# Altium schematic symbol library components.SchLib: 17 symbols
Pins are listed as number, name and electrical type; pins without a type are passive.

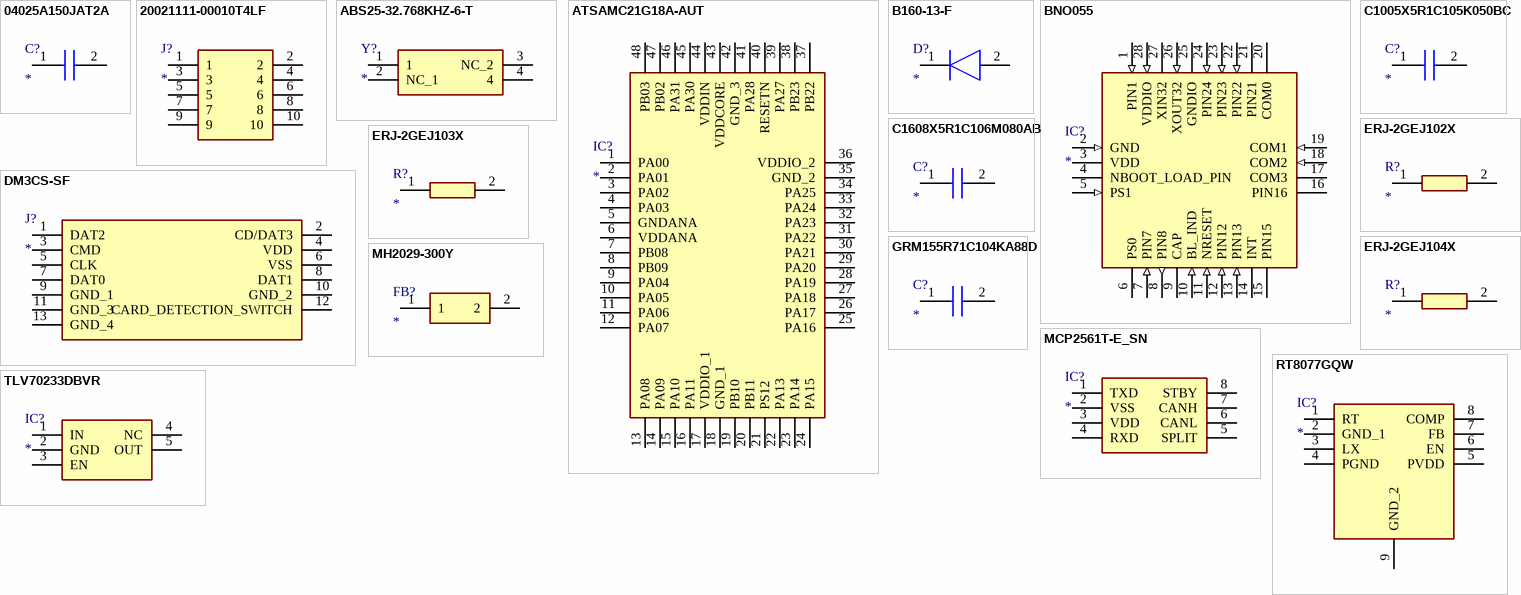
[diagram p0: symbols 04025A150JAT2A to TLV70233DBVR]

## 04025A150JAT2A
designator C?
Capacitor; Manufacturer_Name: AVX; Manufacturer_Part_Number: 04025A150JAT2A; Allied_Number: 70001388; Datasheet Link: http://datasheets.avx.com/C0GNP0-Dielectric.pdf; Height: 0.56mm; Mouser Part Number: 581-04025A150J; Mouser Price/Stock: https://www.mouser.com/Search/Refine.aspx?Keyword=581-04025A150J; RS Part Number: 6983071P; RS Price/Stock: http://uk.rs-online.com/web/p/products/6983071P; Allied Price/Stock: http://www.alliedelec.com/avx-04025a150jat2a/70001388/
footprint CAPC1005X56N
pins: 1, 2

## 20021111-00010T4LF
designator J?
Connector; Manufacturer_Name: FCI / Amphenol; Manufacturer_Part_Number: 20021111-00010T4LF; Description: Headers; Allied_Number: 70475647; Datasheet Link: https://www.mouser.it/datasheet/2/18/20021111-1362952.pdf; Height: 7.58mm; Mouser Part Number: 649-221111-00010T4LF; Allied Price/Stock: https://www.alliedelec.com/amphenolfci-20021111-00010t4lf/70475647/
footprint HDRV10W41P127_2X5_635X343X758P
pins: 1, 2, 3, 4, 5, 6, 7, 8, 9, 10

## ABS25-32.768KHZ-6-T
designator Y?
Crystal or Oscillator; Manufacturer_Name: ABRACON; Manufacturer_Part_Number: ABS25-32.768KHZ-6-T; Datasheet Link: http://www.abracon.com/Resonators/abs25.pdf; Mouser Part Number: 815-ABS25-32.768K6-T; Mouser Price/Stock: https://www.mouser.com/Search/Refine.aspx?Keyword=815-ABS25-32.768K6-T; RS Part Number: 1712795; RS Price/Stock: http://uk.rs-online.com/web/p/products/1712795
footprint ABS25
pins: 1, 2 NC_1, 3 NC_2, 4

## ATSAMC21G18A-AUT
designator IC?
Integrated Circuit; Manufacturer_Name: Microchip; Manufacturer_Part_Number: ATSAMC21G18A-AUT; Datasheet Link: http://www.mouser.com/ds/2/36/Atmel-42365-SAMC21_Datasheet-894213.pdf; Height: 1.2mm; Mouser Part Number: 556-ATSAMC21G18A-AUT; Mouser Price/Stock: https://www.mouser.com/Search/Refine.aspx?Keyword=556-ATSAMC21G18A-AUT
footprint QFP50P900X900X120-48N
pins: 1 PA00 (power), 2 PA01 (power), 3 PA02 (power), 4 PA03, 5 GNDANA, 6 VDDANA, 7 PB08, 8 PB09, 9 PA04, 10 PA05, 11 PA06, 12 PA07, 13 PA08, 14 PA09, 15 PA10, 16 PA11, 17 VDDIO_1, 18 GND_1, 19 PB10, 20 PB11, 21 PS12, 22 PA13, 23 PA14, 24 PA15, 25 PA16, 26 PA17, 27 PA18, 28 PA19, 29 PA20, 30 PA21, 31 PA22, 32 PA23, 33 PA24, 34 PA25, 35 GND_2, 36 VDDIO_2, 37 PB22, 38 PB23, 39 PA27, 40 RESETN, 41 PA28, 42 GND_3, 43 VDDCORE, 44 VDDIN, 45 PA30, 46 PA31, 47 PB02, 48 PB03

## B160-13-F
designator D?
Diode; Manufacturer_Name: Diodes Inc.; Manufacturer_Part_Number: B160-13-F; Description: Schottky Diode 1A 60V 0.7Vf SMA Diodes Inc B160-13-F; Allied_Number: 71028107; Datasheet Link: http://uk.rs-online.com/web/p/products/7384765; Height: 2.4mm; Mouser Part Number: 621-B160-F; Mouser Price/Stock: https://www.mouser.com/Search/Refine.aspx?Keyword=621-B160-F; RS Part Number: 7384765P; RS Price/Stock: http://uk.rs-online.com/web/p/products/7384765P; Allied Price/Stock: https://www.alliedelec.com/diodes-inc-b160-13-f/71028107/
footprint DIOM5226X240N
pins: 1 K, 2 A

## BNO055
designator IC?
Integrated Circuit; Manufacturer_Name: Bosch Sensortec; Manufacturer_Part_Number: BNO055; Description: IMUs - Inertial Measurement Units Absolute Orientation 9-Axis Sensor; Datasheet Link: https://ae-bst.resource.bosch.com/media/_tech/media/datasheets/BST_BNO055_DS000_14.pdf; Height: 1mm; Mouser Part Number: 262-BNO055; Mouser Price/Stock: https://www.mouser.com/Search/Refine.aspx?Keyword=262-BNO055; RS Part Number: 8496171
footprint BNO055
pins: 1 PIN1 (in), 2 GND (in), 3 VDD (power), 4 NBOOT_LOAD_PIN (power), 5 PS1 (in), 6 PS0 (power), 7 PIN7 (in), 8 PIN8 (out), 9 CAP (power), 10 BL_IND (in), 11 NRESET (in), 12 PIN12 (in), 13 PIN13 (in), 14 INT, 15 PIN15, 16 PIN16, 17 COM3, 18 COM2 (in), 19 COM1 (in), 20 COM0, 21 PIN21, 22 PIN22 (in), 23 PIN23 (in), 24 PIN24 (in), 25 GNDIO, 26 XOUT32 (in), 27 XIN32, 28 VDDIO (in)

## C1005X5R1C105K050BC
designator C?
Capacitor; Manufacturer_Name: TDK; Manufacturer_Part_Number: C1005X5R1C105K050BC; Description: 0402 X5R ceramic capacitor 16V 1uF TDK C1005 C 1??F Ceramic Multilayer Capacitor; Datasheet Link: https://product.tdk.com/info/en/documents/chara_sheet/C1005X5R1C105K050BC.pdf; Height: 0.55mm; Mouser Part Number: 810-C1005X5R1C105K; Mouser Price/Stock: https://www.mouser.com/Search/Refine.aspx?Keyword=810-C1005X5R1C105K; RS Part Number: 9214062; RS Price/Stock: http://uk.rs-online.com/web/p/products/9214062
footprint CAPC1005X55N
pins: 1, 2

## C1608X5R1C106M080AB
designator C?
Capacitor; Manufacturer_Name: TDK; Manufacturer_Part_Number: C1608X5R1C106M080AB; Description: Capacitor MLCC 0603 16V 10uF X5R; Datasheet Link: https://product.tdk.com/info/en/catalog/datasheets/mlcc_commercial_midvoltage_en.pdf; Height: 0.8mm; Mouser Part Number: 810-C1608X5R1C106M; Mouser Price/Stock: https://www.mouser.com/Search/Refine.aspx?Keyword=810-C1608X5R1C106M; RS Part Number: 9159120P; RS Price/Stock: http://uk.rs-online.com/web/p/products/9159120P
footprint CAPC1608X80N
pins: 1, 2

## DM3CS-SF
designator J?
Connector; Manufacturer_Name: Hirose; Manufacturer_Part_Number: DM3CS-SF; Description: MicroSD card connector; Datasheet Link: http://docs-emea.rs-online.com/webdocs/118f/0900766b8118f8bb.pdf; Mouser Part Number: 798-DM3CSSF; Mouser Price/Stock: https://www.mouser.com/Search/Refine.aspx?Keyword=798-DM3CSSF; RS Part Number: 1664833; RS Price/Stock: http://uk.rs-online.com/web/p/products/1664833
footprint DM3CS-SF
pins: 1 DAT2, 2 CD/DAT3, 3 CMD, 4 VDD, 5 CLK, 6 VSS, 7 DAT0, 8 DAT1, 9 GND_1, 10 GND_2, 11 GND_3, 12 CARD_DETECTION_SWITCH, 13 GND_4

## ERJ-2GEJ102X
designator R?
Resistor; Manufacturer_Name: Panasonic; Manufacturer_Part_Number: ERJ-2GEJ102X; Allied_Number: 70264916; Description: RESISTOR; Datasheet Link: http://componentsearchengine.com/Datasheets/1/ERJ-2GEJ102X.pdf; Mouser Part Number: 667-ERJ-2GEJ102X; Mouser Price/Stock: https://www.mouser.com/Search/Refine.aspx?Keyword=667-ERJ-2GEJ102X; Allied Price/Stock: https://www.alliedelec.com/panasonic-erj-2gej102x/70264916/
footprint RESC1005X40N
pins: 1 R1, 2 R2

## ERJ-2GEJ103X
designator R?
Resistor; Manufacturer_Name: Panasonic; Manufacturer_Part_Number: ERJ-2GEJ103X; Allied_Number: 70264917; Description: RESISTOR; Datasheet Link: http://componentsearchengine.com/Datasheets/1/ERJ-2GEJ103X.pdf; Mouser Part Number: 667-ERJ-2GEJ103X; Mouser Price/Stock: https://www.mouser.com/Search/Refine.aspx?Keyword=667-ERJ-2GEJ103X; Allied Price/Stock: https://www.alliedelec.com/panasonic-erj-2gej103x/70264917/
footprint RESC1005X40N
pins: 1 R1, 2 R2

## ERJ-2GEJ104X
designator R?
Resistor; Manufacturer_Name: Panasonic; Manufacturer_Part_Number: ERJ-2GEJ104X; Allied_Number: 70264918; Description: RESISTOR; Mouser Part Number: 667-ERJ-2GEJ104X; Mouser Price/Stock: https://www.mouser.com/Search/Refine.aspx?Keyword=667-ERJ-2GEJ104X; Allied Price/Stock: https://www.alliedelec.com/panasonic-erj-2gej104x/70264918/
footprint RESC1005X40N
pins: 1 R1, 2 R2

## GRM155R71C104KA88D
designator C?
Capacitor; Manufacturer_Name: Murata Electronics; Manufacturer_Part_Number: GRM155R71C104KA88D; Description: Ceramic  SMT capacitor 100nF 16Vdc Murata 0402 GRM 100nF Ceramic Multilayer Capacitor; Datasheet Link: http://www.murata.com/~/media/webrenewal/support/library/catalog/products/capacitor/mlcc/c02e.pdf; Height: 0.55mm; Mouser Part Number: N/A; RS Part Number: 6242317P; RS Price/Stock: http://uk.rs-online.com/web/p/products/6242317P
footprint CAPC1005X55N
pins: 1, 2

## MCP2561T-E_SN
designator IC?
Integrated Circuit; Manufacturer_Name: Microchip; Manufacturer_Part_Number: MCP2561T-E/SN; Description: CAN Interface IC; Allied_Number: 70454196; Datasheet Link: http://www.mouser.com/ds/2/268/25167B-245700.pdf; Height: 1.75mm; Mouser Part Number: 579-MCP2561T-E/SN; Mouser Price/Stock: https://www.mouser.com/Search/Refine.aspx?Keyword=579-MCP2561T-E%2FSN; RS Part Number: 1772855; RS Price/Stock: http://uk.rs-online.com/web/p/products/1772855; Allied Price/Stock: https://www.alliedelec.com/microchip-technology-inc-mcp2561t-e-sn/70454196/
footprint SOIC127P600X175-8N
pins: 1 TXD, 2 VSS, 3 VDD, 4 RXD, 5 SPLIT, 6 CANL, 7 CANH, 8 STBY

## MH2029-300Y
designator FB?
Ferrite Bead; Manufacturer_Name: Bourns; Manufacturer_Part_Number: MH2029-300Y; Description: EMI Filter Beads; Allied_Number: 71024701; Datasheet Link: http://www.mouser.com/ds/2/54/h-777565.pdf; Height: 1.3mm; Mouser Part Number: 652-MH2029-300Y; Mouser Price/Stock: https://www.mouser.com/Search/Refine.aspx?Keyword=652-MH2029-300Y; RS Part Number: 1814464; RS Price/Stock: http://uk.rs-online.com/web/p/products/1814464; Allied Price/Stock: https://www.alliedelec.com/bourns-mh2029-300y/71024701/
footprint BEADC2016X130N
pins: 1, 2

## RT8077GQW
designator IC?
Integrated Circuit; Manufacturer_Name: Richtek USA Inc.; Manufacturer_Part_Number: RT8077GQW; Description: IC REG BUCK ADJ 2.5A SYNC 8WDFN; Datasheet Link: http://www.richtek.com/assets/product_file/RT8077/DS8077-01.pdf; Height: 0.8mm
footprint SON50P200X200X80-9N
pins: 1 RT, 2 GND_1 (power), 3 LX, 4 PGND, 5 PVDD (power), 6 EN, 7 FB, 8 COMP, 9 GND_2 (power)

## TLV70233DBVR
designator IC?
Integrated Circuit; Manufacturer_Name: Texas Instruments; Manufacturer_Part_Number: TLV70233DBVR; Description: 300mA Low-Iq Low-Dropout (LDO) Regulator for Portables; Datasheet Link: http://www.ti.com/lit/gpn/tlv702; Height: 1.45mm; Mouser Part Number: 595-TLV70233DBVR; Mouser Price/Stock: https://www.mouser.com/Search/Refine.aspx?Keyword=595-TLV70233DBVR
footprint SOT95P280X145-5N
pins: 1 IN, 2 GND, 3 EN, 4 NC, 5 OUT